# Altium schematic symbol library Buffer.SchLib: 1 symbol
Pins are listed as number, name and electrical type; pins without a type are passive.

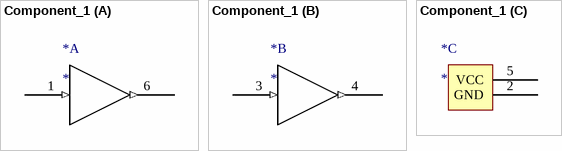
[diagram p0: symbol Component_1]

## Component_1
designator *
part A pins: 1 (in), 6 (out)
part B pins: 3 (in), 4 (out)
part C pins: 2 GND, 5 VCC